# Altium schematic symbol library TPL0401A-10QDCKRQ1.SchLib: 1 symbol
Pins are listed as number, name and electrical type; pins without a type are passive.

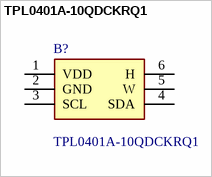
[diagram p0: symbol TPL0401A-10QDCKRQ1]

## TPL0401A-10QDCKRQ1
designator B?
Automotive 128-Taps Single-Channel Digital Potentiometer With I2C Interface; Manufacturer_Name: Texas Instruments; Geometry.Height: 1.1mm; Mouser Part Number: 595-PL0401A10QDCKRQ1; Mouser Price/Stock: https://www.mouser.co.uk/ProductDetail/Texas-Instruments/TPL0401A-10QDCKRQ1?qs=34RfhUjJmKcWn7b6vRygjg%3D%3D; Manufacturer_Part_Number: TPL0401A-10QDCKRQ1; Datasheet Link: http://www.ti.com/lit/gpn/tpl0401a-10-q1
footprint SOT65P210X110-6N
pins: 1 VDD, 2 GND, 3 SCL, 4 SDA, 5 W, 6 H